# Altium footprint library FTDI Communication UART.PcbLib: 19 footprints (part 2 of 2)
Each footprint in its own frame and in the unit in brackets; x right, y up, seen from the top. Pads: shape width x height; smd on the part's side, far side on the other; paste and mask are expansions set on the pad; w line width, h text height; cw(c..) or ccw(c..) is an arc to the next point about the centre after c.
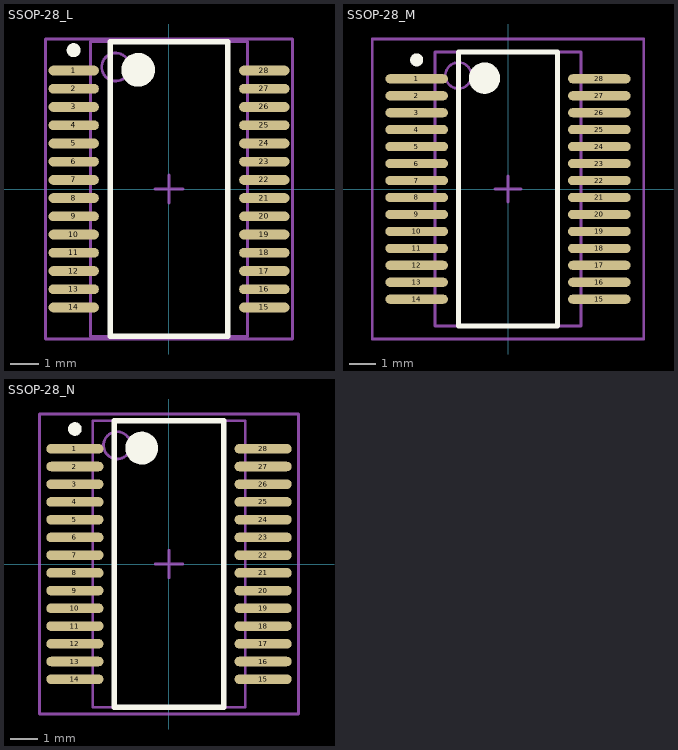
[diagram p1: the footprints below, top view; thin cyan lines are the x and y axes]

## SSOP-28_L [mm] "SOP, 28-Leads, Body 10.2x5.3mm, Pitch 0.65mm, IPC High Density"
height 2
pads (28):
  oval 1.8x0.35 smd: 1(-3.4,4.225) 2(-3.4,3.575) 3(-3.4,2.925) 4(-3.4,2.275) 5(-3.4,1.625) 6(-3.4,0.975) 7(-3.4,0.325) 8(-3.4,-0.325) 9(-3.4,-0.975) 10(-3.4,-1.625) 11(-3.4,-2.275) 12(-3.4,-2.925) 13(-3.4,-3.575) 14(-3.4,-4.225) 15(3.4,-4.225) 16(3.4,-3.575) 17(3.4,-2.925) 18(3.4,-2.275) 19(3.4,-1.625) 20(3.4,-0.975) 21(3.4,-0.325) 22(3.4,0.325) 23(3.4,0.975) 24(3.4,1.625) 25(3.4,2.275) 26(3.4,2.925) 27(3.4,3.575) 28(3.4,4.225)
Top Overlay:
  circle w0.6: c-1.1,4.25 r0.3
  circle w0.25: c-3.4,4.95 r0.125
  lines w0.2: -2.1,-5.25 2.1,-5.25 2.1,5.25 -2.1,5.25 -2.1,-5.25
Mechanical 13:
  circle w0.1: c-1.9,4.35 r0.5
  lines w0.1: -2.8,-5.25 2.8,-5.25 2.8,5.25 -2.8,5.25 -2.8,-5.25
Mechanical 15:
  lines w0.1: -0.5,0 0.5,0 ; 0,-0.5 0,0.5 ; -4.4,-5.35 4.4,-5.35 4.4,5.35 -4.4,5.35 -4.4,-5.35
3D body: height 2, standoff 0.05, extent -2.8,-5.25 2.8,5.25

## SSOP-28_M [mm] "SOP, 28-Leads, Body 10.2x5.3mm, Pitch 0.65mm, IPC Low Density"
height 2
pads (28):
  oval 2.4x0.35 smd: 1(-3.5,4.225) 2(-3.5,3.575) 3(-3.5,2.925) 4(-3.5,2.275) 5(-3.5,1.625) 6(-3.5,0.975) 7(-3.5,0.325) 8(-3.5,-0.325) 9(-3.5,-0.975) 10(-3.5,-1.625) 11(-3.5,-2.275) 12(-3.5,-2.925) 13(-3.5,-3.575) 14(-3.5,-4.225) 15(3.5,-4.225) 16(3.5,-3.575) 17(3.5,-2.925) 18(3.5,-2.275) 19(3.5,-1.625) 20(3.5,-0.975) 21(3.5,-0.325) 22(3.5,0.325) 23(3.5,0.975) 24(3.5,1.625) 25(3.5,2.275) 26(3.5,2.925) 27(3.5,3.575) 28(3.5,4.225)
Top Overlay:
  circle w0.6: c-0.9,4.25 r0.3
  circle w0.25: c-3.5,4.95 r0.125
  lines w0.2: -1.9,-5.25 1.9,-5.25 1.9,5.25 -1.9,5.25 -1.9,-5.25
Mechanical 13:
  circle w0.1: c-1.9,4.35 r0.5
  lines w0.1: -2.8,-5.25 2.8,-5.25 2.8,5.25 -2.8,5.25 -2.8,-5.25
Mechanical 15:
  lines w0.1: -0.5,0 0.5,0 ; 0,-0.5 0,0.5 ; -5.2,-5.75 5.2,-5.75 5.2,5.75 -5.2,5.75 -5.2,-5.75
3D body: height 2, standoff 0.05, extent -2.8,-5.25 2.8,5.25

## SSOP-28_N [mm] "SOP, 28-Leads, Body 10.2x5.3mm, Pitch 0.65mm, IPC Medium Density"
height 2
pads (28):
  oval 2.1x0.35 smd: 1(-3.45,4.225) 2(-3.45,3.575) 3(-3.45,2.925) 4(-3.45,2.275) 5(-3.45,1.625) 6(-3.45,0.975) 7(-3.45,0.325) 8(-3.45,-0.325) 9(-3.45,-0.975) 10(-3.45,-1.625) 11(-3.45,-2.275) 12(-3.45,-2.925) 13(-3.45,-3.575) 14(-3.45,-4.225) 15(3.45,-4.225) 16(3.45,-3.575) 17(3.45,-2.925) 18(3.45,-2.275) 19(3.45,-1.625) 20(3.45,-0.975) 21(3.45,-0.325) 22(3.45,0.325) 23(3.45,0.975) 24(3.45,1.625) 25(3.45,2.275) 26(3.45,2.925) 27(3.45,3.575) 28(3.45,4.225)
Top Overlay:
  circle w0.6: c-1,4.25 r0.3
  circle w0.25: c-3.45,4.95 r0.125
  lines w0.2: -2,-5.25 2,-5.25 2,5.25 -2,5.25 -2,-5.25
Mechanical 13:
  circle w0.1: c-1.9,4.35 r0.5
  lines w0.1: -2.8,-5.25 2.8,-5.25 2.8,5.25 -2.8,5.25 -2.8,-5.25
Mechanical 15:
  lines w0.1: -0.5,0 0.5,0 ; 0,-0.5 0,0.5 ; -4.75,-5.5 4.75,-5.5 4.75,5.5 -4.75,5.5 -4.75,-5.5
3D body: height 2, standoff 0.05, extent -2.8,-5.25 2.8,5.25